# Altium footprint library DLW21HN900SQ2L.PcbLib: 1 footprints
Each footprint in its own frame and in the unit in brackets; x right, y up, seen from the top. Pads: shape width x height; smd on the part's side, far side on the other; paste and mask are expansions set on the pad; w line width, h text height; cw(c..) or ccw(c..) is an arc to the next point about the centre after c.
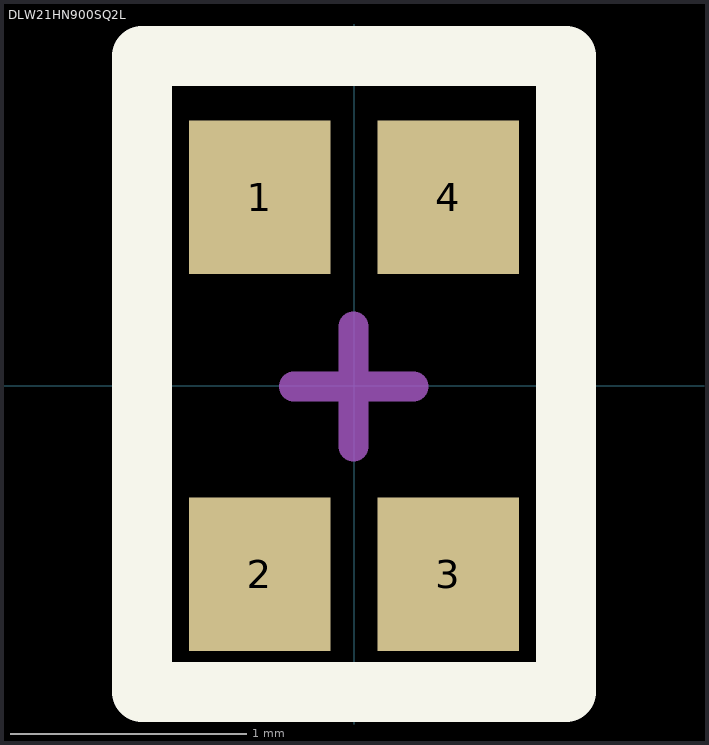
[diagram p0: the footprint, top view; thin cyan lines are the x and y axes]

## DLW21HN900SQ2L [mm]
pads (4):
  rect 0.6x0.65 smd: 1(-0.4,0.8) 2(-0.4,-0.8) 3(0.4,-0.8) 4(0.4,0.8)
Top Overlay:
  lines w0.254: -0.9,-1.3 0.9,-1.3 0.9,1.4 -0.9,1.4 -0.9,-1.3
Mechanical 13:
  lines w0.127: -0.9,-1.3 -0.9,1.4 0.9,1.4 0.9,-1.3 -0.9,-1.3
Mechanical 15:
  lines w0.127: -0.256,-0.003 0.252,-0.003 ; -0.002,-0.257 -0.002,0.251 ; -0.9,-1.3 0.9,-1.3 0.9,1.4 -0.9,1.4 -0.9,-1.3
Mechanical 17:
  text "'.Designator'" at -0.2,1.2 h0.51
Mechanical 19:
  text "'.Comment'" at -0.2,1.1 h0.51
3D body "User Library-EMI Filter DLW21S.step": height 1.2, standoff 0, extent -0.601,-0.998 0.599,1.002